# Altium footprint library CAP_FILM.PcbLib: 1 footprints
Each footprint in its own frame and in the unit in brackets; x right, y up, seen from the top. Pads: shape width x height; smd on the part's side, far side on the other; paste and mask are expansions set on the pad; w line width, h text height; cw(c..) or ccw(c..) is an arc to the next point about the centre after c.
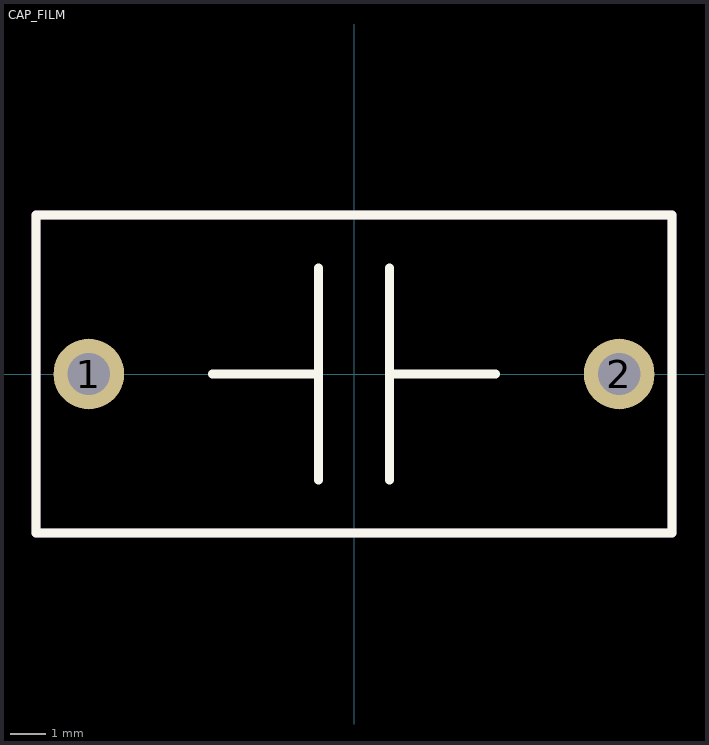
[diagram p0: the footprint, top view; thin cyan lines are the x and y axes]

## CAP_FILM [mm]
pads (2):
  round 2 hole 1.2: 1(-7.5,0) 2(7.5,0)
Top Overlay:
  lines w0.254: -4,0 -1,0 ; -1,-3 -1,0 ; -1,3 -1,0 ; 1,-3 1,-2 1,3 ; 1,0 4,0 ; -9,-4.5 9,-4.5 9,4.5 -9,4.5 -9,-4.5
Top Assembly:
  lines w0.254: -9,-4.5 -9,4.5 9,4.5 9,-4.5 -9,-4.5
  text "'.Designator'" at 0,0 h0.7
3D body "User Library-FILM_GREY_P1500L1800W900H1750PD80.STEP": height 17.5, standoff -5, extent -9,-4.5 9,4.5